# Altium integrated library NSC Switcher.IntLib: 889 symbols (part 11 of 23)
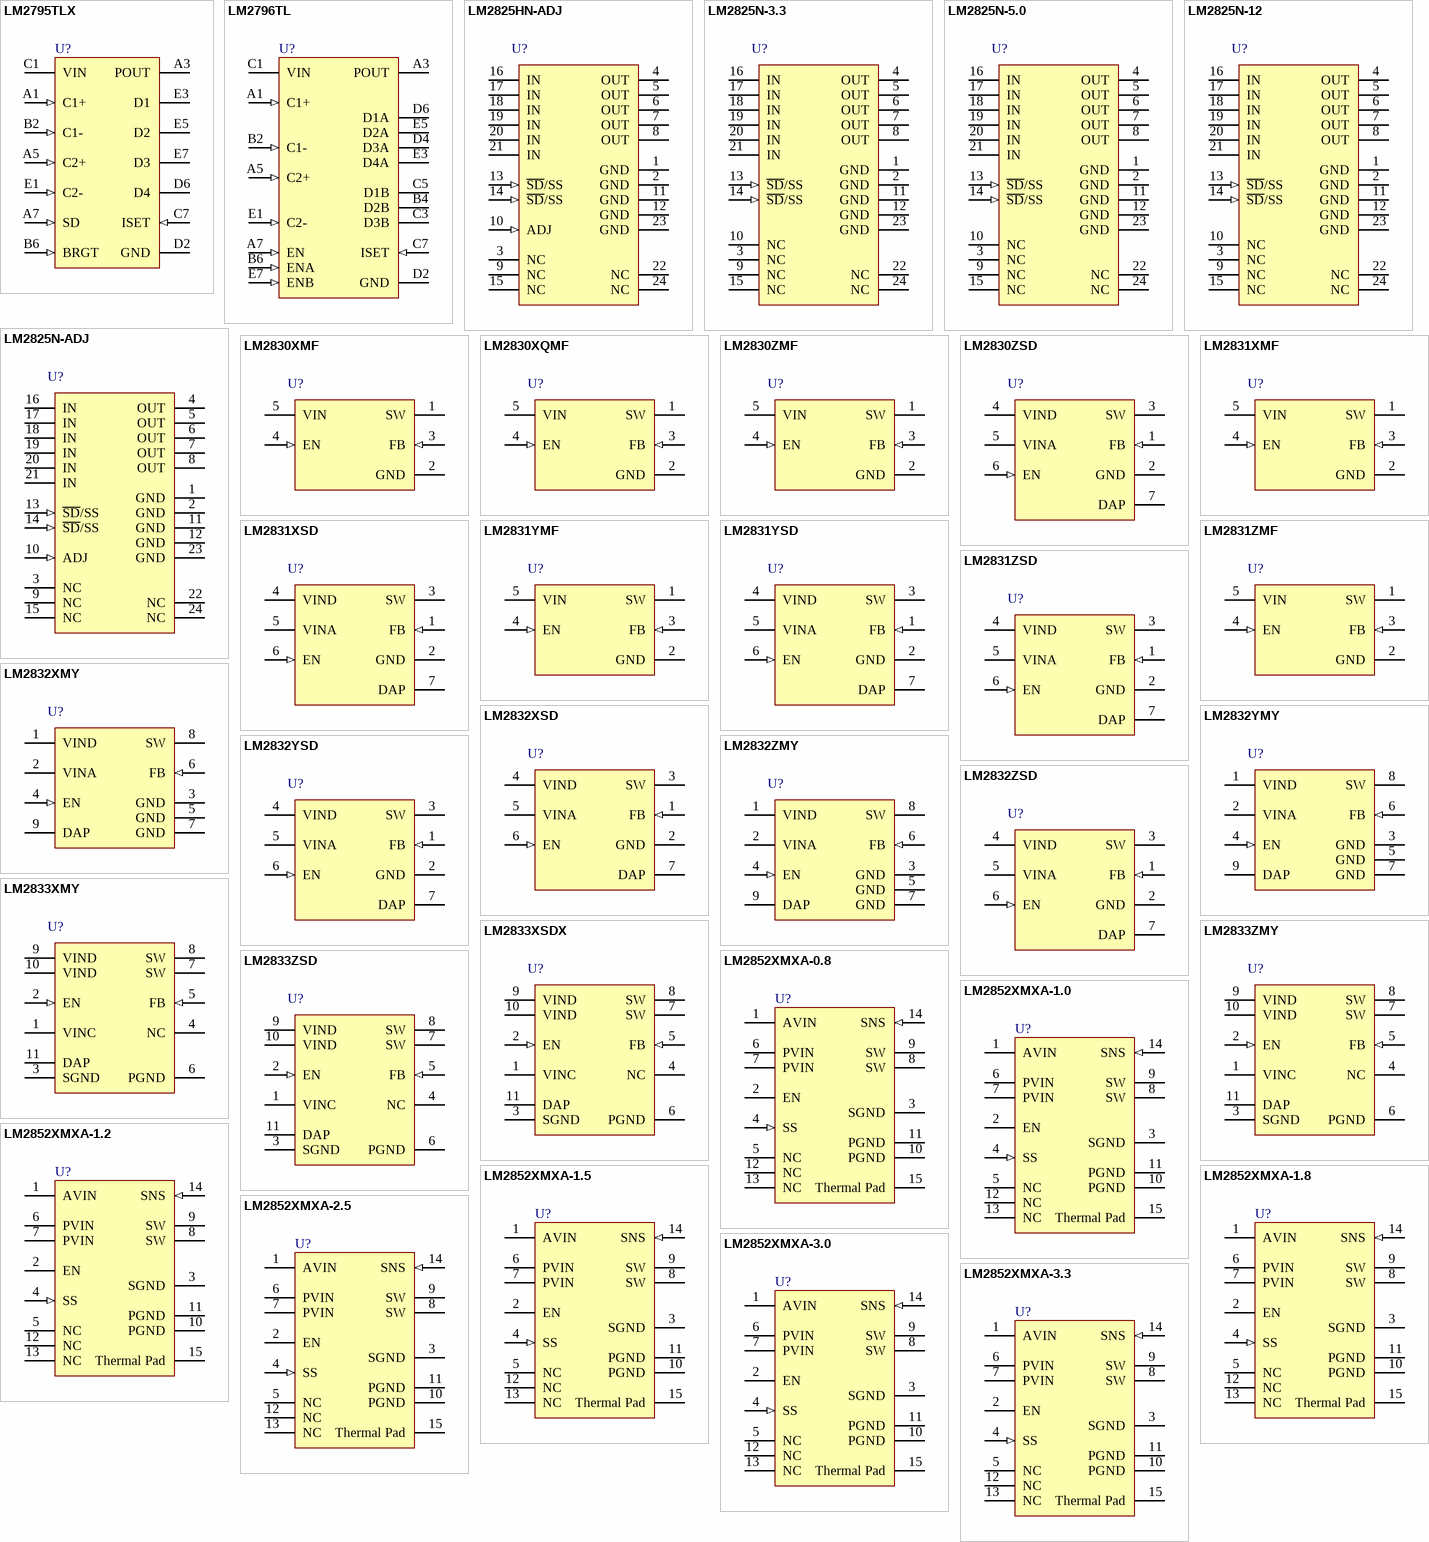
[diagram p37: symbols LM2795TLX to LM2852XMXA-3.3]

## LM2825N-3.3
designator U?
Integrated Power Supply 1A DC-DC Converter; PartNumber: LM2825N-3.3; Manufacturer: National Semiconductor; CompType: Switcher; PackageTopMarking: @SIMPLE SWITCHERTM*ZXXYYTT*LM2825N-3.3*3.3V, 1A OUTPUT; PowerWise: N; Published: 4-Dec-2008; DatasheetVersion: May-1997; PackageVersion: revD, Feb-1996; PackageReference: NA24F; Publisher: Altium Limited; PackageDescription: Molded Dip, 24 Lead, IPS1; RoHS: Y; PinCount: 24; DigiKeyPartNumber: LM2825N-3.3-ND; ComponentLink1Description: LM2825 Datasheet; ComponentLink1URL: http://www.national.com/ds/LM/LM2825.pdf; ComponentLink2Description: LM2825 Web Page; ComponentLink2URL: http://www.national.com/pf/LM/LM2825.html; ComponentLink3Description: NA24F Package Page; ComponentLink3URL: http://www.national.com/packaging/folders/na24f.html
footprint NA24F (DIP, 24-Leads, Row Spacing 15.24mm, Pitch 2.54mm, Body 31.75x13.72mm)
pins: 1 GND (power), 2 GND (power), 3 NC, 4 OUT (power), 5 OUT (power), 6 OUT (power), 7 OUT (power), 8 OUT (power), 9 NC, 10 NC, 11 GND (power), 12 GND (power), 13 ~{SD}/SS (in), 14 ~{SD}/SS (in), 15 NC, 16 IN (power), 17 IN (power), 18 IN (power), 19 IN (power), 20 IN (power), 21 IN (power), 22 NC, 23 GND (power), 24 NC

## LM2825N-5.0
designator U?
Integrated Power Supply 1A DC-DC Converter; PartNumber: LM2825N-5.0; Manufacturer: National Semiconductor; CompType: Switcher; PackageTopMarking: @SIMPLE SWITCHERTM*ZXXYYTT*LM2825N-5.0*5.0V, 1A OUTPUT; PowerWise: N; Published: 4-Dec-2008; DatasheetVersion: May-1997; PackageVersion: revD, Feb-1996; PackageReference: NA24F; Publisher: Altium Limited; PackageDescription: Molded Dip, 24 Lead, IPS1; RoHS: O; PinCount: 24; DigiKeyPartNumber: LM2825N-5.0-ND; ComponentLink1Description: LM2825 Datasheet; ComponentLink1URL: http://www.national.com/ds/LM/LM2825.pdf; ComponentLink2Description: LM2825 Web Page; ComponentLink2URL: http://www.national.com/pf/LM/LM2825.html; ComponentLink3Description: NA24F Package Page; ComponentLink3URL: http://www.national.com/packaging/folders/na24f.html
footprint NA24F (DIP, 24-Leads, Row Spacing 15.24mm, Pitch 2.54mm, Body 31.75x13.72mm)
pins: 1 GND (power), 2 GND (power), 3 NC, 4 OUT (power), 5 OUT (power), 6 OUT (power), 7 OUT (power), 8 OUT (power), 9 NC, 10 NC, 11 GND (power), 12 GND (power), 13 ~{SD}/SS (in), 14 ~{SD}/SS (in), 15 NC, 16 IN (power), 17 IN (power), 18 IN (power), 19 IN (power), 20 IN (power), 21 IN (power), 22 NC, 23 GND (power), 24 NC

## LM2825N-12
designator U?
Integrated Power Supply 1A DC-DC Converter; PartNumber: LM2825N-12; Manufacturer: National Semiconductor; CompType: Switcher; PackageTopMarking: @SIMPLE SWITCHERTM*ZXXYYTT*LM2825N-12*12V, 1A OUTPUT; PowerWise: N; Published: 4-Dec-2008; DatasheetVersion: May-1997; PackageVersion: revD, Feb-1996; PackageReference: NA24F; Publisher: Altium Limited; PackageDescription: Molded Dip, 24 Lead, IPS1; RoHS: Y; PinCount: 24; DigiKeyPartNumber: LM2825N-12-ND; ComponentLink1Description: LM2825 Datasheet; ComponentLink1URL: http://www.national.com/ds/LM/LM2825.pdf; ComponentLink2Description: LM2825 Web Page; ComponentLink2URL: http://www.national.com/pf/LM/LM2825.html; ComponentLink3Description: NA24F Package Page; ComponentLink3URL: http://www.national.com/packaging/folders/na24f.html
footprint NA24F (DIP, 24-Leads, Row Spacing 15.24mm, Pitch 2.54mm, Body 31.75x13.72mm)
pins: 1 GND (power), 2 GND (power), 3 NC, 4 OUT (power), 5 OUT (power), 6 OUT (power), 7 OUT (power), 8 OUT (power), 9 NC, 10 NC, 11 GND (power), 12 GND (power), 13 ~{SD}/SS (in), 14 ~{SD}/SS (in), 15 NC, 16 IN (power), 17 IN (power), 18 IN (power), 19 IN (power), 20 IN (power), 21 IN (power), 22 NC, 23 GND (power), 24 NC

## LM2825N-ADJ
designator U?
Integrated Power Supply 1A DC-DC Converter; PartNumber: LM2825N-ADJ; Manufacturer: National Semiconductor; CompType: Switcher; PackageTopMarking: @SIMPLE SWITCHERTM*ZXXYYTT*LM2825N-ADJ*ADJ, 1A OUTPUT; PowerWise: N; Published: 4-Dec-2008; DatasheetVersion: May-1997; PackageVersion: revD, Feb-1996; PackageReference: NA24F; Publisher: Altium Limited; PackageDescription: Molded Dip, 24 Lead, IPS1; RoHS: O; PinCount: 24; DigiKeyPartNumber: LM2825N-ADJ-ND; ComponentLink1Description: LM2825 Datasheet; ComponentLink1URL: http://www.national.com/ds/LM/LM2825.pdf; ComponentLink2Description: LM2825 Web Page; ComponentLink2URL: http://www.national.com/pf/LM/LM2825.html; ComponentLink3Description: NA24F Package Page; ComponentLink3URL: http://www.national.com/packaging/folders/na24f.html
footprint NA24F (DIP, 24-Leads, Row Spacing 15.24mm, Pitch 2.54mm, Body 31.75x13.72mm)
pins: 1 GND (power), 2 GND (power), 3 NC, 4 OUT (power), 5 OUT (power), 6 OUT (power), 7 OUT (power), 8 OUT (power), 9 NC, 10 ADJ (in), 11 GND (power), 12 GND (power), 13 ~{SD}/SS (in), 14 ~{SD}/SS (in), 15 NC, 16 IN (power), 17 IN (power), 18 IN (power), 19 IN (power), 20 IN (power), 21 IN (power), 22 NC, 23 GND (power), 24 NC

## LM2830XMF
designator U?
High Frequency 1.0A Load - Step-Down DC-DC  Regulator; PartNumber: LM2830XMF; Manufacturer: National Semiconductor; CompType: Switcher; PackageTopMarking: SKTB*XTT; PowerWise: N; Published: 4-Dec-2008; DatasheetVersion: May-2008; PackageVersion: revD, Aug-2008; PackageReference: MF05A; Publisher: Altium Limited; PackageDescription: Molded SOT-23, .115 x .063 x .040 in Body, 5 Lead, .0375 in Pitch; RoHS: O; PinCount: 5; DigiKeyPartNumber: LM2830XMFCT-ND; Code_IPC: SOT23-5; ComponentLink1Description: LM2830 Datasheet; ComponentLink1URL: http://www.national.com/ds/LM/LM2830.pdf; ComponentLink2Description: LM2830 Web Page; ComponentLink2URL: http://www.national.com/pf/LM/LM2830.html; ComponentLink3Description: MF05A Package Page; ComponentLink3URL: http://www.national.com/packaging/folders/mf05a.html
footprint MF05A_N (SOT23, 5-Leads, Body 2.9x1.6mm, Pitch 0.95mm, Lead Span 2.8mm, IPC Medium Density)
footprint MF05A_L (SOT23, 5-Leads, Body 2.9x1.6mm, Pitch 0.95mm, Lead Span 2.8mm, IPC High Density)
footprint MF05A_M (SOT23, 5-Leads, Body 2.9x1.6mm, Pitch 0.95mm, Lead Span 2.8mm, IPC Low Density)
pins: 1 SW (power), 2 GND (power), 3 FB (in), 4 EN (in), 5 VIN (power)

## LM2830XQMF
designator U?
High Frequency 1.0A Load - Step-Down DC-DC  Regulator; PartNumber: LM2830XQMF; Manufacturer: National Semiconductor; CompType: Switcher; PackageTopMarking: SUFB*XTT; PowerWise: N; Published: 4-Dec-2008; DatasheetVersion: May-2008; PackageVersion: revD, Aug-2008; PackageReference: MF05A; Publisher: Altium Limited; PackageDescription: Molded SOT-23, .115 x .063 x .040 in Body, 5 Lead, .0375 in Pitch; RoHS: Y; PinCount: 5; DigiKeyPartNumber: LM2830XQMF-ND; Code_IPC: SOT23-5; ComponentLink1Description: LM2830 Datasheet; ComponentLink1URL: http://www.national.com/ds/LM/LM2830.pdf; ComponentLink2Description: LM2830 Web Page; ComponentLink2URL: http://www.national.com/pf/LM/LM2830.html; ComponentLink3Description: MF05A Package Page; ComponentLink3URL: http://www.national.com/packaging/folders/mf05a.html
footprint MF05A_N (SOT23, 5-Leads, Body 2.9x1.6mm, Pitch 0.95mm, Lead Span 2.8mm, IPC Medium Density)
footprint MF05A_L (SOT23, 5-Leads, Body 2.9x1.6mm, Pitch 0.95mm, Lead Span 2.8mm, IPC High Density)
footprint MF05A_M (SOT23, 5-Leads, Body 2.9x1.6mm, Pitch 0.95mm, Lead Span 2.8mm, IPC Low Density)
pins: 1 SW (power), 2 GND (power), 3 FB (in), 4 EN (in), 5 VIN (power)

## LM2830ZMF
designator U?
High Frequency 1.0A Load - Step-Down DC-DC  Regulator; PartNumber: LM2830ZMF; Manufacturer: National Semiconductor; CompType: Switcher; PackageTopMarking: SKXB*XTT; PowerWise: N; Published: 4-Dec-2008; DatasheetVersion: May-2008; PackageVersion: revD, Aug-2008; PackageReference: MF05A; Publisher: Altium Limited; PackageDescription: Molded SOT-23, .115 x .063 x .040 in Body, 5 Lead, .0375 in Pitch; RoHS: Y; PinCount: 5; DigiKeyPartNumber: LM2830ZMFCT-ND; Code_IPC: SOT23-5; ComponentLink1Description: LM2830 Datasheet; ComponentLink1URL: http://www.national.com/ds/LM/LM2830.pdf; ComponentLink2Description: LM2830 Web Page; ComponentLink2URL: http://www.national.com/pf/LM/LM2830.html; ComponentLink3Description: MF05A Package Page; ComponentLink3URL: http://www.national.com/packaging/folders/mf05a.html
footprint MF05A_N (SOT23, 5-Leads, Body 2.9x1.6mm, Pitch 0.95mm, Lead Span 2.8mm, IPC Medium Density)
footprint MF05A_L (SOT23, 5-Leads, Body 2.9x1.6mm, Pitch 0.95mm, Lead Span 2.8mm, IPC High Density)
footprint MF05A_M (SOT23, 5-Leads, Body 2.9x1.6mm, Pitch 0.95mm, Lead Span 2.8mm, IPC Low Density)
pins: 1 SW (power), 2 GND (power), 3 FB (in), 4 EN (in), 5 VIN (power)

## LM2830ZSD
designator U?
High Frequency 1.0A Load - Step-Down DC-DC  Regulator; PartNumber: LM2830ZSD; Manufacturer: National Semiconductor; CompType: Switcher; PackageTopMarking: ZXYTT*L192B; PowerWise: N; Published: 4-Dec-2008; DatasheetVersion: May-2008; PackageVersion: revA, Jul-2003; PackageReference: SDE06A; Publisher: Altium Limited; PackageDescription: LLP, Plastic, Dual, 3 x 3 x 0.8mm Body, 6 Lead, 0.95mm Pitch, No Pullback; RoHS: Y; PinCount: 6; DigiKeyPartNumber: LM2830ZSDCT-ND; ComponentLink1Description: LM2830 Datasheet; ComponentLink1URL: http://www.national.com/ds/LM/LM2830.pdf; ComponentLink2Description: LM2830 Web Page; ComponentLink2URL: http://www.national.com/pf/LM/LM2830.html; ComponentLink3Description: SDE06A Package Page; ComponentLink3URL: http://www.national.com/packaging/folders/sde06a.html
footprint SDE06A_full (SON, 6-Leads, Body 3x3 mm, Pitch 0.95mm, Full Paste, NSC Recommended)
footprint SDE06A_quad (SON, 6-Leads, Body 3x3 mm, Pitch 0.95mm, Quad Paste, NSC Recommended)
pins: 1 FB (in), 2 GND (power), 3 SW (power), 4 VIND (power), 5 VINA (power), 6 EN (in), 7 DAP

## LM2831XMF
designator U?
High Frequency 1.5A Load - Step-Down DC-DC Regulator; PartNumber: LM2831XMF; Manufacturer: National Semiconductor; CompType: Switcher; PackageTopMarking: SKYB*XTT; PowerWise: N; Published: 4-Dec-2008; DatasheetVersion: Aug-2006; PackageVersion: revD, Aug-2008; PackageReference: MF05A; Publisher: Altium Limited; PackageDescription: Molded SOT-23, .115 x .063 x .040 in Body, 5 Lead, .0375 in Pitch; RoHS: Y; PinCount: 5; DigiKeyPartNumber: LM2831XMFCT-ND; Code_IPC: SOT23-5; ComponentLink1Description: LM2831 Datasheet; ComponentLink1URL: http://www.national.com/ds/LM/LM2831.pdf; ComponentLink2Description: LM2831 Web Page; ComponentLink2URL: http://www.national.com/pf/LM/LM2831.html; ComponentLink3Description: MF05A Package Page; ComponentLink3URL: http://www.national.com/packaging/folders/mf05a.html
footprint MF05A_N (SOT23, 5-Leads, Body 2.9x1.6mm, Pitch 0.95mm, Lead Span 2.8mm, IPC Medium Density)
footprint MF05A_L (SOT23, 5-Leads, Body 2.9x1.6mm, Pitch 0.95mm, Lead Span 2.8mm, IPC High Density)
footprint MF05A_M (SOT23, 5-Leads, Body 2.9x1.6mm, Pitch 0.95mm, Lead Span 2.8mm, IPC Low Density)
pins: 1 SW (power), 2 GND (power), 3 FB (in), 4 EN (in), 5 VIN (power)

## LM2831XSD
designator U?
High Frequency 1.5A Load - Step-Down DC-DC Regulator; PartNumber: LM2831XSD; Manufacturer: National Semiconductor; CompType: Switcher; PackageTopMarking: ZXYTT*L193B; PowerWise: N; Published: 4-Dec-2008; DatasheetVersion: Aug-2006; PackageVersion: revA, Jul-2003; PackageReference: SDE06A; Publisher: Altium Limited; PackageDescription: LLP, Plastic, Dual, 3 x 3 x 0.8mm Body, 6 Lead, 0.95mm Pitch, No Pullback; RoHS: Y; PinCount: 6; DigiKeyPartNumber: LM2831XSDCT-ND; ComponentLink1Description: LM2831 Datasheet; ComponentLink1URL: http://www.national.com/ds/LM/LM2831.pdf; ComponentLink2Description: LM2831 Web Page; ComponentLink2URL: http://www.national.com/pf/LM/LM2831.html; ComponentLink3Description: SDE06A Package Page; ComponentLink3URL: http://www.national.com/packaging/folders/sde06a.html
footprint SDE06A_full (SON, 6-Leads, Body 3x3 mm, Pitch 0.95mm, Full Paste, NSC Recommended)
footprint SDE06A_quad (SON, 6-Leads, Body 3x3 mm, Pitch 0.95mm, Quad Paste, NSC Recommended)
pins: 1 FB (in), 2 GND (power), 3 SW (power), 4 VIND (power), 5 VINA (power), 6 EN (in), 7 DAP

## LM2831YMF
designator U?
High Frequency 1.5A Load - Step-Down DC-DC Regulator; PartNumber: LM2831YMF; Manufacturer: National Semiconductor; CompType: Switcher; PackageTopMarking: SKZB*XTT; PowerWise: N; Published: 4-Dec-2008; DatasheetVersion: Aug-2006; PackageVersion: revD, Aug-2008; PackageReference: MF05A; Publisher: Altium Limited; PackageDescription: Molded SOT-23, .115 x .063 x .040 in Body, 5 Lead, .0375 in Pitch; RoHS: Y; PinCount: 5; DigiKeyPartNumber: LM2831YMFCT-ND; Code_IPC: SOT23-5; ComponentLink1Description: LM2831 Datasheet; ComponentLink1URL: http://www.national.com/ds/LM/LM2831.pdf; ComponentLink2Description: LM2831 Web Page; ComponentLink2URL: http://www.national.com/pf/LM/LM2831.html; ComponentLink3Description: MF05A Package Page; ComponentLink3URL: http://www.national.com/packaging/folders/mf05a.html
footprint MF05A_N (SOT23, 5-Leads, Body 2.9x1.6mm, Pitch 0.95mm, Lead Span 2.8mm, IPC Medium Density)
footprint MF05A_L (SOT23, 5-Leads, Body 2.9x1.6mm, Pitch 0.95mm, Lead Span 2.8mm, IPC High Density)
footprint MF05A_M (SOT23, 5-Leads, Body 2.9x1.6mm, Pitch 0.95mm, Lead Span 2.8mm, IPC Low Density)
pins: 1 SW (power), 2 GND (power), 3 FB (in), 4 EN (in), 5 VIN (power)

## LM2831YSD
designator U?
High Frequency 1.5A Load - Step-Down DC-DC Regulator; PartNumber: LM2831YSD; Manufacturer: National Semiconductor; CompType: Switcher; PackageTopMarking: ZXYTT*L194B; PowerWise: N; Published: 4-Dec-2008; DatasheetVersion: Aug-2006; PackageVersion: revA, Jul-2003; PackageReference: SDE06A; Publisher: Altium Limited; PackageDescription: LLP, Plastic, Dual, 3 x 3 x 0.8mm Body, 6 Lead, 0.95mm Pitch, No Pullback; RoHS: Y; PinCount: 6; DigiKeyPartNumber: LM2831YSDCT-ND; ComponentLink1Description: LM2831 Datasheet; ComponentLink1URL: http://www.national.com/ds/LM/LM2831.pdf; ComponentLink2Description: LM2831 Web Page; ComponentLink2URL: http://www.national.com/pf/LM/LM2831.html; ComponentLink3Description: SDE06A Package Page; ComponentLink3URL: http://www.national.com/packaging/folders/sde06a.html
footprint SDE06A_full (SON, 6-Leads, Body 3x3 mm, Pitch 0.95mm, Full Paste, NSC Recommended)
footprint SDE06A_quad (SON, 6-Leads, Body 3x3 mm, Pitch 0.95mm, Quad Paste, NSC Recommended)
pins: 1 FB (in), 2 GND (power), 3 SW (power), 4 VIND (power), 5 VINA (power), 6 EN (in), 7 DAP

## LM2831ZMF
designator U?
High Frequency 1.5A Load - Step-Down DC-DC Regulator; PartNumber: LM2831ZMF; Manufacturer: National Semiconductor; CompType: Switcher; PackageTopMarking: SLAB*XTT; PowerWise: N; Published: 4-Dec-2008; DatasheetVersion: Aug-2006; PackageVersion: revD, Aug-2008; PackageReference: MF05A; Publisher: Altium Limited; PackageDescription: Molded SOT-23, .115 x .063 x .040 in Body, 5 Lead, .0375 in Pitch; RoHS: Y; PinCount: 5; DigiKeyPartNumber: LM2831ZMFCT-ND; Code_IPC: SOT23-5; ComponentLink1Description: LM2831 Datasheet; ComponentLink1URL: http://www.national.com/ds/LM/LM2831.pdf; ComponentLink2Description: LM2831 Web Page; ComponentLink2URL: http://www.national.com/pf/LM/LM2831.html; ComponentLink3Description: MF05A Package Page; ComponentLink3URL: http://www.national.com/packaging/folders/mf05a.html
footprint MF05A_N (SOT23, 5-Leads, Body 2.9x1.6mm, Pitch 0.95mm, Lead Span 2.8mm, IPC Medium Density)
footprint MF05A_L (SOT23, 5-Leads, Body 2.9x1.6mm, Pitch 0.95mm, Lead Span 2.8mm, IPC High Density)
footprint MF05A_M (SOT23, 5-Leads, Body 2.9x1.6mm, Pitch 0.95mm, Lead Span 2.8mm, IPC Low Density)
pins: 1 SW (power), 2 GND (power), 3 FB (in), 4 EN (in), 5 VIN (power)

## LM2831ZSD
designator U?
High Frequency 1.5A Load - Step-Down DC-DC Regulator; PartNumber: LM2831ZSD; Manufacturer: National Semiconductor; CompType: Switcher; PackageTopMarking: ZXYTT*L195B; PowerWise: N; Published: 4-Dec-2008; DatasheetVersion: Aug-2006; PackageVersion: revA, Jul-2003; PackageReference: SDE06A; Publisher: Altium Limited; PackageDescription: LLP, Plastic, Dual, 3 x 3 x 0.8mm Body, 6 Lead, 0.95mm Pitch, No Pullback; RoHS: Y; PinCount: 6; DigiKeyPartNumber: LM2831ZSDCT-ND; ComponentLink1Description: LM2831 Datasheet; ComponentLink1URL: http://www.national.com/ds/LM/LM2831.pdf; ComponentLink2Description: LM2831 Web Page; ComponentLink2URL: http://www.national.com/pf/LM/LM2831.html; ComponentLink3Description: SDE06A Package Page; ComponentLink3URL: http://www.national.com/packaging/folders/sde06a.html
footprint SDE06A_full (SON, 6-Leads, Body 3x3 mm, Pitch 0.95mm, Full Paste, NSC Recommended)
footprint SDE06A_quad (SON, 6-Leads, Body 3x3 mm, Pitch 0.95mm, Quad Paste, NSC Recommended)
pins: 1 FB (in), 2 GND (power), 3 SW (power), 4 VIND (power), 5 VINA (power), 6 EN (in), 7 DAP

## LM2832XMY
designator U?
High Frequency 2.0A Load - Step-Down DC-DC Regulator; PartNumber: LM2832XMY; Manufacturer: National Semiconductor; CompType: Switcher; PackageTopMarking: ZXTT*SLBB; PowerWise: N; Published: 4-Dec-2008; DatasheetVersion: Aug-2006; PackageVersion: revA, Nov-2003; PackageReference: MUY08A; Publisher: Altium Limited; PackageDescription: Molded Mini-SO, Exposed Pad, .118 x .118 x .034in Body, 8 Lead, .0256in Pitch; RoHS: Y; PinCount: 8; DigiKeyPartNumber: LM2832XMYCT-ND; Code_JEDEC: MO-187-AA; ComponentLink1Description: LM2832 Datasheet; ComponentLink1URL: http://www.national.com/ds/LM/LM2832.pdf; ComponentLink2Description: LM2832 Web Page; ComponentLink2URL: http://www.national.com/pf/LM/LM2832.html; ComponentLink3Description: MUY08A Package Page; ComponentLink3URL: http://www.national.com/packaging/folders/muy08a.html
footprint MUY08A_N (TSOP, 8-Leads, Body 3x3mm, Pitch 0.65mm, Exposed Pad, IPC Medium Density)
footprint MUY08A_L (TSOP, 8-Leads, Body 3x3mm, Pitch 0.65mm, Exposed Pad, IPC High Density)
footprint MUY08A_M (TSOP, 8-Leads, Body 3x3mm, Pitch 0.65mm, Exposed Pad, IPC Low Density)
pins: 1 VIND (power), 2 VINA (power), 3 GND (power), 4 EN (in), 5 GND (power), 6 FB (in), 7 GND (power), 8 SW (power), 9 DAP

## LM2832XSD
designator U?
High Frequency 2.0A Load - Step-Down DC-DC Regulator; PartNumber: LM2832XSD; Manufacturer: National Semiconductor; CompType: Switcher; PackageTopMarking: ZXYTT*L196B; PowerWise: N; Published: 4-Dec-2008; DatasheetVersion: Aug-2006; PackageVersion: revA, Jul-2003; PackageReference: SDE06A; Publisher: Altium Limited; PackageDescription: LLP, Plastic, Dual, 3 x 3 x 0.8mm Body, 6 Lead, 0.95mm Pitch, No Pullback; RoHS: Y; PinCount: 6; DigiKeyPartNumber: LM2832XSDCT-ND; ComponentLink1Description: LM2832 Datasheet; ComponentLink1URL: http://www.national.com/ds/LM/LM2832.pdf; ComponentLink2Description: LM2832 Web Page; ComponentLink2URL: http://www.national.com/pf/LM/LM2832.html; ComponentLink3Description: SDE06A Package Page; ComponentLink3URL: http://www.national.com/packaging/folders/sde06a.html
footprint SDE06A_full (SON, 6-Leads, Body 3x3 mm, Pitch 0.95mm, Full Paste, NSC Recommended)
footprint SDE06A_quad (SON, 6-Leads, Body 3x3 mm, Pitch 0.95mm, Quad Paste, NSC Recommended)
pins: 1 FB (in), 2 GND (power), 3 SW (power), 4 VIND (power), 5 VINA (power), 6 EN (in), 7 DAP

## LM2832YMY
designator U?
High Frequency 2.0A Load - Step-Down DC-DC Regulator; PartNumber: LM2832YMY; Manufacturer: National Semiconductor; CompType: Switcher; PackageTopMarking: ZXTT*SLCB; PowerWise: N; Published: 4-Dec-2008; DatasheetVersion: Aug-2006; PackageVersion: revA, Nov-2003; PackageReference: MUY08A; Publisher: Altium Limited; PackageDescription: Molded Mini-SO, Exposed Pad, .118 x .118 x .034in Body, 8 Lead, .0256in Pitch; RoHS: Y; PinCount: 8; DigiKeyPartNumber: LM2832YMYCT-ND; Code_JEDEC: MO-187-AA; ComponentLink1Description: LM2832 Datasheet; ComponentLink1URL: http://www.national.com/ds/LM/LM2832.pdf; ComponentLink2Description: LM2832 Web Page; ComponentLink2URL: http://www.national.com/pf/LM/LM2832.html; ComponentLink3Description: MUY08A Package Page; ComponentLink3URL: http://www.national.com/packaging/folders/muy08a.html
footprint MUY08A_N (TSOP, 8-Leads, Body 3x3mm, Pitch 0.65mm, Exposed Pad, IPC Medium Density)
footprint MUY08A_L (TSOP, 8-Leads, Body 3x3mm, Pitch 0.65mm, Exposed Pad, IPC High Density)
footprint MUY08A_M (TSOP, 8-Leads, Body 3x3mm, Pitch 0.65mm, Exposed Pad, IPC Low Density)
pins: 1 VIND (power), 2 VINA (power), 3 GND (power), 4 EN (in), 5 GND (power), 6 FB (in), 7 GND (power), 8 SW (power), 9 DAP

## LM2832YSD
designator U?
High Frequency 2.0A Load - Step-Down DC-DC Regulator; PartNumber: LM2832YSD; Manufacturer: National Semiconductor; CompType: Switcher; PackageTopMarking: ZXYTT*L197B; PowerWise: N; Published: 4-Dec-2008; DatasheetVersion: Aug-2006; PackageVersion: revA, Jul-2003; PackageReference: SDE06A; Publisher: Altium Limited; PackageDescription: LLP, Plastic, Dual, 3 x 3 x 0.8mm Body, 6 Lead, 0.95mm Pitch, No Pullback; RoHS: Y; PinCount: 6; DigiKeyPartNumber: LM2832YSDCT-ND; ComponentLink1Description: LM2832 Datasheet; ComponentLink1URL: http://www.national.com/ds/LM/LM2832.pdf; ComponentLink2Description: LM2832 Web Page; ComponentLink2URL: http://www.national.com/pf/LM/LM2832.html; ComponentLink3Description: SDE06A Package Page; ComponentLink3URL: http://www.national.com/packaging/folders/sde06a.html
footprint SDE06A_full (SON, 6-Leads, Body 3x3 mm, Pitch 0.95mm, Full Paste, NSC Recommended)
footprint SDE06A_quad (SON, 6-Leads, Body 3x3 mm, Pitch 0.95mm, Quad Paste, NSC Recommended)
pins: 1 FB (in), 2 GND (power), 3 SW (power), 4 VIND (power), 5 VINA (power), 6 EN (in), 7 DAP

## LM2832ZMY
designator U?
High Frequency 2.0A Load - Step-Down DC-DC Regulator; PartNumber: LM2832ZMY; Manufacturer: National Semiconductor; CompType: Switcher; PackageTopMarking: ZXTT*SLDB; PowerWise: N; Published: 4-Dec-2008; DatasheetVersion: Aug-2006; PackageVersion: revA, Nov-2003; PackageReference: MUY08A; Publisher: Altium Limited; PackageDescription: Molded Mini-SO, Exposed Pad, .118 x .118 x .034in Body, 8 Lead, .0256in Pitch; RoHS: Y; PinCount: 8; DigiKeyPartNumber: LM2832ZMYCT-ND; Code_JEDEC: MO-187-AA; ComponentLink1Description: LM2832 Datasheet; ComponentLink1URL: http://www.national.com/ds/LM/LM2832.pdf; ComponentLink2Description: LM2832 Web Page; ComponentLink2URL: http://www.national.com/pf/LM/LM2832.html; ComponentLink3Description: MUY08A Package Page; ComponentLink3URL: http://www.national.com/packaging/folders/muy08a.html
footprint MUY08A_N (TSOP, 8-Leads, Body 3x3mm, Pitch 0.65mm, Exposed Pad, IPC Medium Density)
footprint MUY08A_L (TSOP, 8-Leads, Body 3x3mm, Pitch 0.65mm, Exposed Pad, IPC High Density)
footprint MUY08A_M (TSOP, 8-Leads, Body 3x3mm, Pitch 0.65mm, Exposed Pad, IPC Low Density)
pins: 1 VIND (power), 2 VINA (power), 3 GND (power), 4 EN (in), 5 GND (power), 6 FB (in), 7 GND (power), 8 SW (power), 9 DAP

## LM2832ZSD
designator U?
High Frequency 2.0A Load - Step-Down DC-DC Regulator; PartNumber: LM2832ZSD; Manufacturer: National Semiconductor; CompType: Switcher; PackageTopMarking: ZXYTT*L198B; PowerWise: N; Published: 4-Dec-2008; DatasheetVersion: Aug-2006; PackageVersion: revA, Jul-2003; PackageReference: SDE06A; Publisher: Altium Limited; PackageDescription: LLP, Plastic, Dual, 3 x 3 x 0.8mm Body, 6 Lead, 0.95mm Pitch, No Pullback; RoHS: Y; PinCount: 6; DigiKeyPartNumber: LM2832ZSDCT-ND; ComponentLink1Description: LM2832 Datasheet; ComponentLink1URL: http://www.national.com/ds/LM/LM2832.pdf; ComponentLink2Description: LM2832 Web Page; ComponentLink2URL: http://www.national.com/pf/LM/LM2832.html; ComponentLink3Description: SDE06A Package Page; ComponentLink3URL: http://www.national.com/packaging/folders/sde06a.html
footprint SDE06A_full (SON, 6-Leads, Body 3x3 mm, Pitch 0.95mm, Full Paste, NSC Recommended)
footprint SDE06A_quad (SON, 6-Leads, Body 3x3 mm, Pitch 0.95mm, Quad Paste, NSC Recommended)
pins: 1 FB (in), 2 GND (power), 3 SW (power), 4 VIND (power), 5 VINA (power), 6 EN (in), 7 DAP

## LM2833XMY
designator U?
1.5MHz/3MHz 3.0A Step-Down DC-DC Switching Regulator; PartNumber: LM2833XMY; Manufacturer: National Semiconductor; CompType: Switcher; PackageTopMarking: ZXTT*SPYB; PowerWise: N; Published: 29-May-2009; DatasheetVersion: Jan-2009; PackageVersion: revA, May-2006; PackageReference: MUC10A; Publisher: Altium Limited; PackageDescription: Molded Mini-SO, Exposed Pad .118 x .118 x .034in Body, 10 Lead, .0197in Pitch; RoHS: Y; PinCount: 10; DigiKeyPartNumber: LM2833XMYCT-ND; Code_JEDEC: MO-187-BAT; ComponentLink1Description: LM2833 Datasheet; ComponentLink1URL: http://www.national.com/ds/LM/LM2833.pdf; ComponentLink2Description: LM2833 Web Page; ComponentLink2URL: http://www.national.com/pf/LM/LM2833.html; ComponentLink3Description: MUC10A Package Page; ComponentLink3URL: http://www.national.com/packaging/folders/muc10a.html
footprint MUC10A_N (TSSOP, 10-Leads, Body 3x3mm, Pitch 0.5mm, Exposed Pad, IPC Medium Density)
footprint MUC10A_L (TSSOP, 10-Leads, Body 3x3mm, Pitch 0.5mm, Exposed Pad, IPC High Density)
footprint MUC10A_M (TSSOP, 10-Leads, Body 3x3mm, Pitch 0.5mm, Exposed Pad, IPC Low Density)
pins: 1 VINC (power), 2 EN (in), 3 SGND (power), 4 NC, 5 FB (in), 6 PGND (power), 7 SW (power), 8 SW (power), 9 VIND (power), 10 VIND (power), 11 DAP (power)

## LM2833XSDX
designator U?
1.5MHz/3MHz 3.0A Step-Down DC-DC Switching Regulator; PartNumber: LM2833XSDX; Manufacturer: National Semiconductor; CompType: Switcher; PackageTopMarking: ZXYTT*2833X; PowerWise: N; Published: 29-May-2009; DatasheetVersion: Jan-2009; PackageVersion: revA, Oct-2003; PackageReference: SDA10A; Publisher: Altium Limited; PackageDescription: LLP, Plastic, Dual, 3 x 3 x 0.8mm Body, 10 Lead, 0.5mm Pitch, No Pullback; RoHS: Y; PinCount: 10; DigiKeyPartNumber: LM2833XSDX-ND; ComponentLink1Description: LM2833 Datasheet; ComponentLink1URL: http://www.national.com/ds/LM/LM2833.pdf; ComponentLink2Description: LM2833 Web Page; ComponentLink2URL: http://www.national.com/pf/LM/LM2833.html; ComponentLink3Description: SDA10A Package Page; ComponentLink3URL: http://www.national.com/packaging/folders/sda10a.html
footprint SDA10A (SON, 10-Leads, Body 3x3 mm, Pitch 0.5mm, NSC Recommended)
pins: 1 VINC (power), 2 EN (in), 3 SGND (power), 4 NC, 5 FB (in), 6 PGND (power), 7 SW (power), 8 SW (power), 9 VIND (power), 10 VIND (power), 11 DAP (power)

## LM2833ZMY
designator U?
1.5MHz/3MHz 3.0A Step-Down DC-DC Switching Regulator; PartNumber: LM2833ZMY; Manufacturer: National Semiconductor; CompType: Switcher; PackageTopMarking: ZXTT*SPZB; PowerWise: N; Published: 29-May-2009; DatasheetVersion: Jan-2009; PackageVersion: revA, May-2006; PackageReference: MUC10A; Publisher: Altium Limited; PackageDescription: Molded Mini-SO, Exposed Pad .118 x .118 x .034in Body, 10 Lead, .0197in Pitch; RoHS: Y; PinCount: 10; DigiKeyPartNumber: LM2833ZMYCT-ND; Code_JEDEC: MO-187-BAT; ComponentLink1Description: LM2833 Datasheet; ComponentLink1URL: http://www.national.com/ds/LM/LM2833.pdf; ComponentLink2Description: LM2833 Web Page; ComponentLink2URL: http://www.national.com/pf/LM/LM2833.html; ComponentLink3Description: MUC10A Package Page; ComponentLink3URL: http://www.national.com/packaging/folders/muc10a.html
footprint MUC10A_N (TSSOP, 10-Leads, Body 3x3mm, Pitch 0.5mm, Exposed Pad, IPC Medium Density)
footprint MUC10A_L (TSSOP, 10-Leads, Body 3x3mm, Pitch 0.5mm, Exposed Pad, IPC High Density)
footprint MUC10A_M (TSSOP, 10-Leads, Body 3x3mm, Pitch 0.5mm, Exposed Pad, IPC Low Density)
pins: 1 VINC (power), 2 EN (in), 3 SGND (power), 4 NC, 5 FB (in), 6 PGND (power), 7 SW (power), 8 SW (power), 9 VIND (power), 10 VIND (power), 11 DAP (power)

## LM2833ZSD
designator U?
1.5MHz/3MHz 3.0A Step-Down DC-DC Switching Regulator; PartNumber: LM2833ZSD; Manufacturer: National Semiconductor; CompType: Switcher; PackageTopMarking: ZXYTT*2833Z; PowerWise: N; Published: 29-May-2009; DatasheetVersion: Jan-2009; PackageVersion: revA, Oct-2003; PackageReference: SDA10A; Publisher: Altium Limited; PackageDescription: LLP, Plastic, Dual, 3 x 3 x 0.8mm Body, 10 Lead, 0.5mm Pitch, No Pullback; RoHS: Y; PinCount: 10; DigiKeyPartNumber: LM2833ZSDCT-ND; ComponentLink1Description: LM2833 Datasheet; ComponentLink1URL: http://www.national.com/ds/LM/LM2833.pdf; ComponentLink2Description: LM2833 Web Page; ComponentLink2URL: http://www.national.com/pf/LM/LM2833.html; ComponentLink3Description: SDA10A Package Page; ComponentLink3URL: http://www.national.com/packaging/folders/sda10a.html
footprint SDA10A (SON, 10-Leads, Body 3x3 mm, Pitch 0.5mm, NSC Recommended)
pins: 1 VINC (power), 2 EN (in), 3 SGND (power), 4 NC, 5 FB (in), 6 PGND (power), 7 SW (power), 8 SW (power), 9 VIND (power), 10 VIND (power), 11 DAP (power)

## LM2852XMXA-0.8
designator U?
2A 500/1500kHz Synchronous SIMPLE SWITCHER; Buck Regulator; PartNumber: LM2852XMXA-0.8; Manufacturer: National Semiconductor; PackageTopMarking: NSUZXYTT*2852X*0.8; PowerWise: Y; Published: 4-Dec-2008; DatasheetVersion: Oct-2006; PackageVersion: revA, Feb-2003; PackageReference: MXA14A; Publisher: Altium Limited; PackageDescription: Molded TSSOP, JEDEC, Exposed Pad, 5.0 x 4.4 x 0.9mm Body, 14 Lead, 0.65mm Pitch; CompType: Switcher; RoHS: Y; PinCount: 14; DigiKeyPartNumber: LM2852XMXA-0.8-ND; Code_JEDEC: MO-153-ABT-1; ComponentLink1Description: LM2852 Datasheet; ComponentLink1URL: http://www.national.com/ds/LM/LM2852.pdf; ComponentLink2Description: LM2852 Web Page; ComponentLink2URL: http://www.national.com/pf/LM/LM2852.html; ComponentLink3Description: MXA14A Package Page; ComponentLink3URL: http://www.national.com/packaging/folders/mxa14a.html
footprint MXA14A_N (TSOP, 14-Leads, Body 5x4.4mm, Pitch 0.65mm, Exposed Pad, IPC Medium Density)
footprint MXA14A_L (TSOP, 14-Leads, Body 5x4.4mm, Pitch 0.65mm, Exposed Pad, IPC High Density)
footprint MXA14A_M (TSOP, 14-Leads, Body 5x4.4mm, Pitch 0.65mm, Exposed Pad, IPC Low Density)
pins: 1 AVIN (power), 2 EN, 3 SGND (power), 4 SS (in), 5 NC, 6 PVIN (power), 7 PVIN (power), 8 SW (power), 9 SW (power), 10 PGND (power), 11 PGND (power), 12 NC, 13 NC, 14 SNS (in), 15 Thermal Pad (power)

## LM2852XMXA-1.0
designator U?
2A 500/1500kHz Synchronous SIMPLE SWITCHER; Buck Regulator; PartNumber: LM2852XMXA-1.0; Manufacturer: National Semiconductor; PackageTopMarking: NSUZXYTT*2852X*1.0; PowerWise: Y; Published: 4-Dec-2008; DatasheetVersion: Oct-2006; PackageVersion: revA, Feb-2003; PackageReference: MXA14A; Publisher: Altium Limited; PackageDescription: Molded TSSOP, JEDEC, Exposed Pad, 5.0 x 4.4 x 0.9mm Body, 14 Lead, 0.65mm Pitch; CompType: Switcher; RoHS: Y; PinCount: 14; DigiKeyPartNumber: LM2852XMXA-1.0-ND; Code_JEDEC: MO-153-ABT-1; ComponentLink1Description: LM2852 Datasheet; ComponentLink1URL: http://www.national.com/ds/LM/LM2852.pdf; ComponentLink2Description: LM2852 Web Page; ComponentLink2URL: http://www.national.com/pf/LM/LM2852.html; ComponentLink3Description: MXA14A Package Page; ComponentLink3URL: http://www.national.com/packaging/folders/mxa14a.html
footprint MXA14A_N (TSOP, 14-Leads, Body 5x4.4mm, Pitch 0.65mm, Exposed Pad, IPC Medium Density)
footprint MXA14A_L (TSOP, 14-Leads, Body 5x4.4mm, Pitch 0.65mm, Exposed Pad, IPC High Density)
footprint MXA14A_M (TSOP, 14-Leads, Body 5x4.4mm, Pitch 0.65mm, Exposed Pad, IPC Low Density)
pins: 1 AVIN (power), 2 EN, 3 SGND (power), 4 SS (in), 5 NC, 6 PVIN (power), 7 PVIN (power), 8 SW (power), 9 SW (power), 10 PGND (power), 11 PGND (power), 12 NC, 13 NC, 14 SNS (in), 15 Thermal Pad (power)

## LM2852XMXA-1.2
designator U?
2A 500/1500kHz Synchronous SIMPLE SWITCHER; Buck Regulator; PartNumber: LM2852XMXA-1.2; Manufacturer: National Semiconductor; PackageTopMarking: NSUZXYTT*2852X*1.2; PowerWise: Y; Published: 4-Dec-2008; DatasheetVersion: Oct-2006; PackageVersion: revA, Feb-2003; PackageReference: MXA14A; Publisher: Altium Limited; PackageDescription: Molded TSSOP, JEDEC, Exposed Pad, 5.0 x 4.4 x 0.9mm Body, 14 Lead, 0.65mm Pitch; CompType: Switcher; RoHS: Y; PinCount: 14; DigiKeyPartNumber: LM2852XMXA-1.2-ND; Code_JEDEC: MO-153-ABT-1; ComponentLink1Description: LM2852 Datasheet; ComponentLink1URL: http://www.national.com/ds/LM/LM2852.pdf; ComponentLink2Description: LM2852 Web Page; ComponentLink2URL: http://www.national.com/pf/LM/LM2852.html; ComponentLink3Description: MXA14A Package Page; ComponentLink3URL: http://www.national.com/packaging/folders/mxa14a.html
footprint MXA14A_N (TSOP, 14-Leads, Body 5x4.4mm, Pitch 0.65mm, Exposed Pad, IPC Medium Density)
footprint MXA14A_L (TSOP, 14-Leads, Body 5x4.4mm, Pitch 0.65mm, Exposed Pad, IPC High Density)
footprint MXA14A_M (TSOP, 14-Leads, Body 5x4.4mm, Pitch 0.65mm, Exposed Pad, IPC Low Density)
pins: 1 AVIN (power), 2 EN, 3 SGND (power), 4 SS (in), 5 NC, 6 PVIN (power), 7 PVIN (power), 8 SW (power), 9 SW (power), 10 PGND (power), 11 PGND (power), 12 NC, 13 NC, 14 SNS (in), 15 Thermal Pad (power)

## LM2852XMXA-1.5
designator U?
2A 500/1500kHz Synchronous SIMPLE SWITCHER; Buck Regulator; PartNumber: LM2852XMXA-1.5; Manufacturer: National Semiconductor; PackageTopMarking: NSUZXYTT*2852X*1.5; PowerWise: Y; Published: 4-Dec-2008; DatasheetVersion: Oct-2006; PackageVersion: revA, Feb-2003; PackageReference: MXA14A; Publisher: Altium Limited; PackageDescription: Molded TSSOP, JEDEC, Exposed Pad, 5.0 x 4.4 x 0.9mm Body, 14 Lead, 0.65mm Pitch; CompType: Switcher; RoHS: O; PinCount: 14; DigiKeyPartNumber: LM2852XMXA-1.5-ND; Code_JEDEC: MO-153-ABT-1; ComponentLink1Description: LM2852 Datasheet; ComponentLink1URL: http://www.national.com/ds/LM/LM2852.pdf; ComponentLink2Description: LM2852 Web Page; ComponentLink2URL: http://www.national.com/pf/LM/LM2852.html; ComponentLink3Description: MXA14A Package Page; ComponentLink3URL: http://www.national.com/packaging/folders/mxa14a.html
footprint MXA14A_N (TSOP, 14-Leads, Body 5x4.4mm, Pitch 0.65mm, Exposed Pad, IPC Medium Density)
footprint MXA14A_L (TSOP, 14-Leads, Body 5x4.4mm, Pitch 0.65mm, Exposed Pad, IPC High Density)
footprint MXA14A_M (TSOP, 14-Leads, Body 5x4.4mm, Pitch 0.65mm, Exposed Pad, IPC Low Density)
pins: 1 AVIN (power), 2 EN, 3 SGND (power), 4 SS (in), 5 NC, 6 PVIN (power), 7 PVIN (power), 8 SW (power), 9 SW (power), 10 PGND (power), 11 PGND (power), 12 NC, 13 NC, 14 SNS (in), 15 Thermal Pad (power)

## LM2852XMXA-1.8
designator U?
2A 500/1500kHz Synchronous SIMPLE SWITCHER; Buck Regulator; PartNumber: LM2852XMXA-1.8; Manufacturer: National Semiconductor; PackageTopMarking: NSUZXYTT*2852X*1.8; PowerWise: Y; Published: 4-Dec-2008; DatasheetVersion: Oct-2006; PackageVersion: revA, Feb-2003; PackageReference: MXA14A; Publisher: Altium Limited; PackageDescription: Molded TSSOP, JEDEC, Exposed Pad, 5.0 x 4.4 x 0.9mm Body, 14 Lead, 0.65mm Pitch; CompType: Switcher; RoHS: Y; PinCount: 14; DigiKeyPartNumber: LM2852XMXA-1.8-ND; Code_JEDEC: MO-153-ABT-1; ComponentLink1Description: LM2852 Datasheet; ComponentLink1URL: http://www.national.com/ds/LM/LM2852.pdf; ComponentLink2Description: LM2852 Web Page; ComponentLink2URL: http://www.national.com/pf/LM/LM2852.html; ComponentLink3Description: MXA14A Package Page; ComponentLink3URL: http://www.national.com/packaging/folders/mxa14a.html
footprint MXA14A_N (TSOP, 14-Leads, Body 5x4.4mm, Pitch 0.65mm, Exposed Pad, IPC Medium Density)
footprint MXA14A_L (TSOP, 14-Leads, Body 5x4.4mm, Pitch 0.65mm, Exposed Pad, IPC High Density)
footprint MXA14A_M (TSOP, 14-Leads, Body 5x4.4mm, Pitch 0.65mm, Exposed Pad, IPC Low Density)
pins: 1 AVIN (power), 2 EN, 3 SGND (power), 4 SS (in), 5 NC, 6 PVIN (power), 7 PVIN (power), 8 SW (power), 9 SW (power), 10 PGND (power), 11 PGND (power), 12 NC, 13 NC, 14 SNS (in), 15 Thermal Pad (power)

## LM2852XMXA-2.5
designator U?
2A 500/1500kHz Synchronous SIMPLE SWITCHER; Buck Regulator; PartNumber: LM2852XMXA-2.5; Manufacturer: National Semiconductor; PackageTopMarking: NSUZXYTT*2852X*2.5; PowerWise: Y; Published: 4-Dec-2008; DatasheetVersion: Oct-2006; PackageVersion: revA, Feb-2003; PackageReference: MXA14A; Publisher: Altium Limited; PackageDescription: Molded TSSOP, JEDEC, Exposed Pad, 5.0 x 4.4 x 0.9mm Body, 14 Lead, 0.65mm Pitch; CompType: Switcher; RoHS: O; PinCount: 14; DigiKeyPartNumber: LM2852XMXA-2.5-ND; Code_JEDEC: MO-153-ABT-1; ComponentLink1Description: LM2852 Datasheet; ComponentLink1URL: http://www.national.com/ds/LM/LM2852.pdf; ComponentLink2Description: LM2852 Web Page; ComponentLink2URL: http://www.national.com/pf/LM/LM2852.html; ComponentLink3Description: MXA14A Package Page; ComponentLink3URL: http://www.national.com/packaging/folders/mxa14a.html
footprint MXA14A_N (TSOP, 14-Leads, Body 5x4.4mm, Pitch 0.65mm, Exposed Pad, IPC Medium Density)
footprint MXA14A_L (TSOP, 14-Leads, Body 5x4.4mm, Pitch 0.65mm, Exposed Pad, IPC High Density)
footprint MXA14A_M (TSOP, 14-Leads, Body 5x4.4mm, Pitch 0.65mm, Exposed Pad, IPC Low Density)
pins: 1 AVIN (power), 2 EN, 3 SGND (power), 4 SS (in), 5 NC, 6 PVIN (power), 7 PVIN (power), 8 SW (power), 9 SW (power), 10 PGND (power), 11 PGND (power), 12 NC, 13 NC, 14 SNS (in), 15 Thermal Pad (power)

## LM2852XMXA-3.0
designator U?
2A 500/1500kHz Synchronous SIMPLE SWITCHER; Buck Regulator; PartNumber: LM2852XMXA-3.0; Manufacturer: National Semiconductor; PackageTopMarking: NSUZXYTT*2852X*3.0; PowerWise: N; Published: 4-Dec-2008; DatasheetVersion: Oct-2006; PackageVersion: revA, Feb-2003; PackageReference: MXA14A; Publisher: Altium Limited; PackageDescription: Molded TSSOP, JEDEC, Exposed Pad, 5.0 x 4.4 x 0.9mm Body, 14 Lead, 0.65mm Pitch; CompType: Switcher; RoHS: Y; PinCount: 14; DigiKeyPartNumber: LM2852XMXA-3.0-ND; Code_JEDEC: MO-153-ABT-1; ComponentLink1Description: LM2852 Datasheet; ComponentLink1URL: http://www.national.com/ds/LM/LM2852.pdf; ComponentLink2Description: LM2852 Web Page; ComponentLink2URL: http://www.national.com/pf/LM/LM2852.html; ComponentLink3Description: MXA14A Package Page; ComponentLink3URL: http://www.national.com/packaging/folders/mxa14a.html
footprint MXA14A_N (TSOP, 14-Leads, Body 5x4.4mm, Pitch 0.65mm, Exposed Pad, IPC Medium Density)
footprint MXA14A_L (TSOP, 14-Leads, Body 5x4.4mm, Pitch 0.65mm, Exposed Pad, IPC High Density)
footprint MXA14A_M (TSOP, 14-Leads, Body 5x4.4mm, Pitch 0.65mm, Exposed Pad, IPC Low Density)
pins: 1 AVIN (power), 2 EN, 3 SGND (power), 4 SS (in), 5 NC, 6 PVIN (power), 7 PVIN (power), 8 SW (power), 9 SW (power), 10 PGND (power), 11 PGND (power), 12 NC, 13 NC, 14 SNS (in), 15 Thermal Pad (power)

## LM2852XMXA-3.3
designator U?
2A 500/1500kHz Synchronous SIMPLE SWITCHER; Buck Regulator; PartNumber: LM2852XMXA-3.3; Manufacturer: National Semiconductor; PackageTopMarking: NSUZXYTT*2852X*3.3; PowerWise: Y; Published: 4-Dec-2008; DatasheetVersion: Oct-2006; PackageVersion: revA, Feb-2003; PackageReference: MXA14A; Publisher: Altium Limited; PackageDescription: Molded TSSOP, JEDEC, Exposed Pad, 5.0 x 4.4 x 0.9mm Body, 14 Lead, 0.65mm Pitch; CompType: Switcher; RoHS: Y; PinCount: 14; DigiKeyPartNumber: LM2852XMXA-3.3-ND; Code_JEDEC: MO-153-ABT-1; ComponentLink1Description: LM2852 Datasheet; ComponentLink1URL: http://www.national.com/ds/LM/LM2852.pdf; ComponentLink2Description: LM2852 Web Page; ComponentLink2URL: http://www.national.com/pf/LM/LM2852.html; ComponentLink3Description: MXA14A Package Page; ComponentLink3URL: http://www.national.com/packaging/folders/mxa14a.html
footprint MXA14A_N (TSOP, 14-Leads, Body 5x4.4mm, Pitch 0.65mm, Exposed Pad, IPC Medium Density)
footprint MXA14A_L (TSOP, 14-Leads, Body 5x4.4mm, Pitch 0.65mm, Exposed Pad, IPC High Density)
footprint MXA14A_M (TSOP, 14-Leads, Body 5x4.4mm, Pitch 0.65mm, Exposed Pad, IPC Low Density)
pins: 1 AVIN (power), 2 EN, 3 SGND (power), 4 SS (in), 5 NC, 6 PVIN (power), 7 PVIN (power), 8 SW (power), 9 SW (power), 10 PGND (power), 11 PGND (power), 12 NC, 13 NC, 14 SNS (in), 15 Thermal Pad (power)

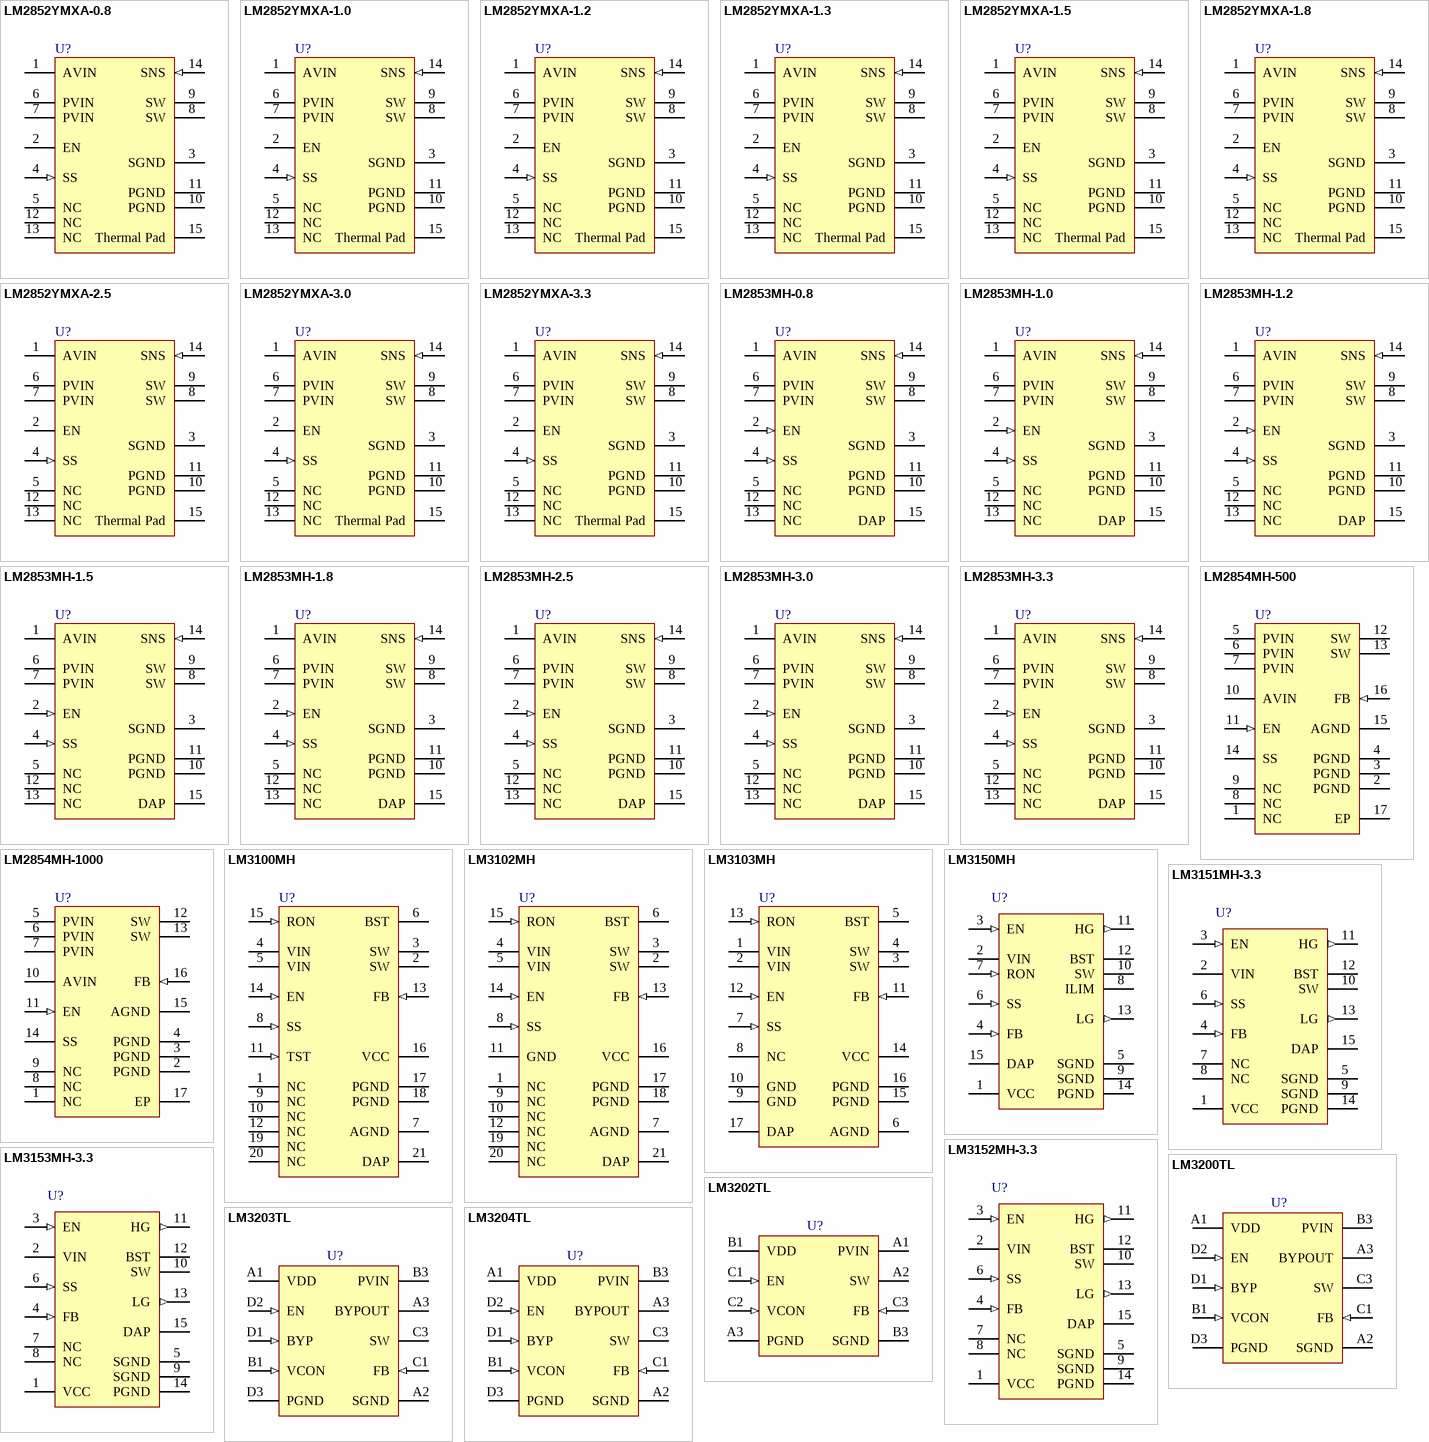
[diagram p13: symbols LM2852YMXA-0.8 to LM3204TL]

## LM2852YMXA-0.8
designator U?
2A 500/1500kHz Synchronous SIMPLE SWITCHER; Buck Regulator; PartNumber: LM2852YMXA-0.8; Manufacturer: National Semiconductor; PackageTopMarking: NSUZXYTT*2852Y*-0.8; PowerWise: Y; Published: 4-Dec-2008; DatasheetVersion: Oct-2006; PackageVersion: revA, Feb-2003; PackageReference: MXA14A; Publisher: Altium Limited; PackageDescription: Molded TSSOP, JEDEC, Exposed Pad, 5.0 x 4.4 x 0.9mm Body, 14 Lead, 0.65mm Pitch; CompType: Switcher; RoHS: Y; PinCount: 14; DigiKeyPartNumber: LM2852YMXA-0.8-ND; Code_JEDEC: MO-153-ABT-1; ComponentLink1Description: LM2852 Datasheet; ComponentLink1URL: http://www.national.com/ds/LM/LM2852.pdf; ComponentLink2Description: LM2852 Web Page; ComponentLink2URL: http://www.national.com/pf/LM/LM2852.html; ComponentLink3Description: MXA14A Package Page; ComponentLink3URL: http://www.national.com/packaging/folders/mxa14a.html
footprint MXA14A_N (TSOP, 14-Leads, Body 5x4.4mm, Pitch 0.65mm, Exposed Pad, IPC Medium Density)
footprint MXA14A_L (TSOP, 14-Leads, Body 5x4.4mm, Pitch 0.65mm, Exposed Pad, IPC High Density)
footprint MXA14A_M (TSOP, 14-Leads, Body 5x4.4mm, Pitch 0.65mm, Exposed Pad, IPC Low Density)
pins: 1 AVIN (power), 2 EN, 3 SGND (power), 4 SS (in), 5 NC, 6 PVIN (power), 7 PVIN (power), 8 SW (power), 9 SW (power), 10 PGND (power), 11 PGND (power), 12 NC, 13 NC, 14 SNS (in), 15 Thermal Pad (power)

## LM2852YMXA-1.0
designator U?
2A 500/1500kHz Synchronous SIMPLE SWITCHER; Buck Regulator; PartNumber: LM2852YMXA-1.0; Manufacturer: National Semiconductor; PackageTopMarking: NSUZXYTT*2852Y*-1.0; PowerWise: Y; Published: 4-Dec-2008; DatasheetVersion: Oct-2006; PackageVersion: revA, Feb-2003; PackageReference: MXA14A; Publisher: Altium Limited; PackageDescription: Molded TSSOP, JEDEC, Exposed Pad, 5.0 x 4.4 x 0.9mm Body, 14 Lead, 0.65mm Pitch; CompType: Switcher; RoHS: Y; PinCount: 14; DigiKeyPartNumber: LM2852YMXA-1.0-ND; Code_JEDEC: MO-153-ABT-1; ComponentLink1Description: LM2852 Datasheet; ComponentLink1URL: http://www.national.com/ds/LM/LM2852.pdf; ComponentLink2Description: LM2852 Web Page; ComponentLink2URL: http://www.national.com/pf/LM/LM2852.html; ComponentLink3Description: MXA14A Package Page; ComponentLink3URL: http://www.national.com/packaging/folders/mxa14a.html
footprint MXA14A_N (TSOP, 14-Leads, Body 5x4.4mm, Pitch 0.65mm, Exposed Pad, IPC Medium Density)
footprint MXA14A_L (TSOP, 14-Leads, Body 5x4.4mm, Pitch 0.65mm, Exposed Pad, IPC High Density)
footprint MXA14A_M (TSOP, 14-Leads, Body 5x4.4mm, Pitch 0.65mm, Exposed Pad, IPC Low Density)
pins: 1 AVIN (power), 2 EN, 3 SGND (power), 4 SS (in), 5 NC, 6 PVIN (power), 7 PVIN (power), 8 SW (power), 9 SW (power), 10 PGND (power), 11 PGND (power), 12 NC, 13 NC, 14 SNS (in), 15 Thermal Pad (power)

## LM2852YMXA-1.2
designator U?
2A 500/1500kHz Synchronous SIMPLE SWITCHER; Buck Regulator; PartNumber: LM2852YMXA-1.2; Manufacturer: National Semiconductor; PackageTopMarking: NSUZXYTT*2852Y*-1.2; PowerWise: Y; Published: 4-Dec-2008; DatasheetVersion: Oct-2006; PackageVersion: revA, Feb-2003; PackageReference: MXA14A; Publisher: Altium Limited; PackageDescription: Molded TSSOP, JEDEC, Exposed Pad, 5.0 x 4.4 x 0.9mm Body, 14 Lead, 0.65mm Pitch; CompType: Switcher; RoHS: Y; PinCount: 14; DigiKeyPartNumber: LM2852YMXA-1.2-ND; Code_JEDEC: MO-153-ABT-1; ComponentLink1Description: LM2852 Datasheet; ComponentLink1URL: http://www.national.com/ds/LM/LM2852.pdf; ComponentLink2Description: LM2852 Web Page; ComponentLink2URL: http://www.national.com/pf/LM/LM2852.html; ComponentLink3Description: MXA14A Package Page; ComponentLink3URL: http://www.national.com/packaging/folders/mxa14a.html
footprint MXA14A_N (TSOP, 14-Leads, Body 5x4.4mm, Pitch 0.65mm, Exposed Pad, IPC Medium Density)
footprint MXA14A_L (TSOP, 14-Leads, Body 5x4.4mm, Pitch 0.65mm, Exposed Pad, IPC High Density)
footprint MXA14A_M (TSOP, 14-Leads, Body 5x4.4mm, Pitch 0.65mm, Exposed Pad, IPC Low Density)
pins: 1 AVIN (power), 2 EN, 3 SGND (power), 4 SS (in), 5 NC, 6 PVIN (power), 7 PVIN (power), 8 SW (power), 9 SW (power), 10 PGND (power), 11 PGND (power), 12 NC, 13 NC, 14 SNS (in), 15 Thermal Pad (power)

## LM2852YMXA-1.3
designator U?
2A 500/1500kHz Synchronous SIMPLE SWITCHER; Buck Regulator; PartNumber: LM2852YMXA-1.3; Manufacturer: National Semiconductor; PackageTopMarking: NSUZXYTT*2852Y*1.3; PowerWise: N; Published: 4-Dec-2008; DatasheetVersion: Oct-2006; PackageVersion: revA, Feb-2003; PackageReference: MXA14A; Publisher: Altium Limited; PackageDescription: Molded TSSOP, JEDEC, Exposed Pad, 5.0 x 4.4 x 0.9mm Body, 14 Lead, 0.65mm Pitch; CompType: Switcher; RoHS: Y; PinCount: 14; DigiKeyPartNumber: LM2852YMXA-1.3-ND; Code_JEDEC: MO-153-ABT-1; ComponentLink1Description: LM2852 Datasheet; ComponentLink1URL: http://www.national.com/ds/LM/LM2852.pdf; ComponentLink2Description: LM2852 Web Page; ComponentLink2URL: http://www.national.com/pf/LM/LM2852.html; ComponentLink3Description: MXA14A Package Page; ComponentLink3URL: http://www.national.com/packaging/folders/mxa14a.html
footprint MXA14A_N (TSOP, 14-Leads, Body 5x4.4mm, Pitch 0.65mm, Exposed Pad, IPC Medium Density)
footprint MXA14A_L (TSOP, 14-Leads, Body 5x4.4mm, Pitch 0.65mm, Exposed Pad, IPC High Density)
footprint MXA14A_M (TSOP, 14-Leads, Body 5x4.4mm, Pitch 0.65mm, Exposed Pad, IPC Low Density)
pins: 1 AVIN (power), 2 EN, 3 SGND (power), 4 SS (in), 5 NC, 6 PVIN (power), 7 PVIN (power), 8 SW (power), 9 SW (power), 10 PGND (power), 11 PGND (power), 12 NC, 13 NC, 14 SNS (in), 15 Thermal Pad (power)

## LM2852YMXA-1.5
designator U?
2A 500/1500kHz Synchronous SIMPLE SWITCHER; Buck Regulator; PartNumber: LM2852YMXA-1.5; Manufacturer: National Semiconductor; PackageTopMarking: NSUZXYTT*2852Y*-1.5; PowerWise: Y; Published: 4-Dec-2008; DatasheetVersion: Oct-2006; PackageVersion: revA, Feb-2003; PackageReference: MXA14A; Publisher: Altium Limited; PackageDescription: Molded TSSOP, JEDEC, Exposed Pad, 5.0 x 4.4 x 0.9mm Body, 14 Lead, 0.65mm Pitch; CompType: Switcher; RoHS: Y; PinCount: 14; DigiKeyPartNumber: LM2852YMXA-1.5-ND; Code_JEDEC: MO-153-ABT-1; ComponentLink1Description: LM2852 Datasheet; ComponentLink1URL: http://www.national.com/ds/LM/LM2852.pdf; ComponentLink2Description: LM2852 Web Page; ComponentLink2URL: http://www.national.com/pf/LM/LM2852.html; ComponentLink3Description: MXA14A Package Page; ComponentLink3URL: http://www.national.com/packaging/folders/mxa14a.html
footprint MXA14A_N (TSOP, 14-Leads, Body 5x4.4mm, Pitch 0.65mm, Exposed Pad, IPC Medium Density)
footprint MXA14A_L (TSOP, 14-Leads, Body 5x4.4mm, Pitch 0.65mm, Exposed Pad, IPC High Density)
footprint MXA14A_M (TSOP, 14-Leads, Body 5x4.4mm, Pitch 0.65mm, Exposed Pad, IPC Low Density)
pins: 1 AVIN (power), 2 EN, 3 SGND (power), 4 SS (in), 5 NC, 6 PVIN (power), 7 PVIN (power), 8 SW (power), 9 SW (power), 10 PGND (power), 11 PGND (power), 12 NC, 13 NC, 14 SNS (in), 15 Thermal Pad (power)

## LM2852YMXA-1.8
designator U?
2A 500/1500kHz Synchronous SIMPLE SWITCHER; Buck Regulator; PartNumber: LM2852YMXA-1.8; Manufacturer: National Semiconductor; PackageTopMarking: NSUZXYTT*2852Y*-1.8; PowerWise: Y; Published: 4-Dec-2008; DatasheetVersion: Oct-2006; PackageVersion: revA, Feb-2003; PackageReference: MXA14A; Publisher: Altium Limited; PackageDescription: Molded TSSOP, JEDEC, Exposed Pad, 5.0 x 4.4 x 0.9mm Body, 14 Lead, 0.65mm Pitch; CompType: Switcher; RoHS: Y; PinCount: 14; DigiKeyPartNumber: LM2852YMXA-1.8-ND; Code_JEDEC: MO-153-ABT-1; ComponentLink1Description: LM2852 Datasheet; ComponentLink1URL: http://www.national.com/ds/LM/LM2852.pdf; ComponentLink2Description: LM2852 Web Page; ComponentLink2URL: http://www.national.com/pf/LM/LM2852.html; ComponentLink3Description: MXA14A Package Page; ComponentLink3URL: http://www.national.com/packaging/folders/mxa14a.html
footprint MXA14A_N (TSOP, 14-Leads, Body 5x4.4mm, Pitch 0.65mm, Exposed Pad, IPC Medium Density)
footprint MXA14A_L (TSOP, 14-Leads, Body 5x4.4mm, Pitch 0.65mm, Exposed Pad, IPC High Density)
footprint MXA14A_M (TSOP, 14-Leads, Body 5x4.4mm, Pitch 0.65mm, Exposed Pad, IPC Low Density)
pins: 1 AVIN (power), 2 EN, 3 SGND (power), 4 SS (in), 5 NC, 6 PVIN (power), 7 PVIN (power), 8 SW (power), 9 SW (power), 10 PGND (power), 11 PGND (power), 12 NC, 13 NC, 14 SNS (in), 15 Thermal Pad (power)

## LM2852YMXA-2.5
designator U?
2A 500/1500kHz Synchronous SIMPLE SWITCHER; Buck Regulator; PartNumber: LM2852YMXA-2.5; Manufacturer: National Semiconductor; PackageTopMarking: NSUZXYTT*2852Y*-2.5; PowerWise: Y; Published: 4-Dec-2008; DatasheetVersion: Oct-2006; PackageVersion: revA, Feb-2003; PackageReference: MXA14A; Publisher: Altium Limited; PackageDescription: Molded TSSOP, JEDEC, Exposed Pad, 5.0 x 4.4 x 0.9mm Body, 14 Lead, 0.65mm Pitch; CompType: Switcher; RoHS: Y; PinCount: 14; DigiKeyPartNumber: LM2852YMXA-2.5-ND; Code_JEDEC: MO-153-ABT-1; ComponentLink1Description: LM2852 Datasheet; ComponentLink1URL: http://www.national.com/ds/LM/LM2852.pdf; ComponentLink2Description: LM2852 Web Page; ComponentLink2URL: http://www.national.com/pf/LM/LM2852.html; ComponentLink3Description: MXA14A Package Page; ComponentLink3URL: http://www.national.com/packaging/folders/mxa14a.html
footprint MXA14A_N (TSOP, 14-Leads, Body 5x4.4mm, Pitch 0.65mm, Exposed Pad, IPC Medium Density)
footprint MXA14A_L (TSOP, 14-Leads, Body 5x4.4mm, Pitch 0.65mm, Exposed Pad, IPC High Density)
footprint MXA14A_M (TSOP, 14-Leads, Body 5x4.4mm, Pitch 0.65mm, Exposed Pad, IPC Low Density)
pins: 1 AVIN (power), 2 EN, 3 SGND (power), 4 SS (in), 5 NC, 6 PVIN (power), 7 PVIN (power), 8 SW (power), 9 SW (power), 10 PGND (power), 11 PGND (power), 12 NC, 13 NC, 14 SNS (in), 15 Thermal Pad (power)